# EAGLE library part TVC-CART-EDGE (library tvc-cart)
Videoton TV Computer cartridge connector for TVC 32k and TVC 64k (at TVC 64k+ there is no FAST)
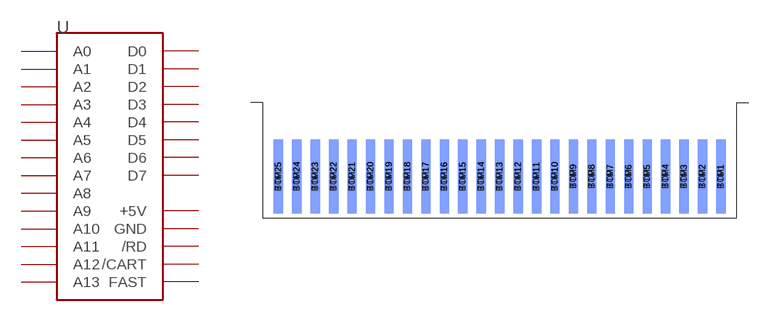
[diagram p0: symbol with the pads of TVC-CART-EDGE; footprint TVC-CART-EDGE]

Designator prefix -

## TVC-CART-EDGE  [TVC-CART-EDGE]
BTM1  GND  pwr
BTM2  GND  pwr
BTM3  GND  pwr
BTM4  GND  pwr
BTM5  GND  pwr
BTM6  GND  pwr
BTM7  GND  pwr
BTM8  GND  pwr
BTM10  +5V  pwr
BTM11  +5V  pwr
BTM12  +5V  pwr
BTM13  +5V  pwr
BTM14  +5V  pwr
BTM15  +5V  pwr
BTM16  +5V  pwr
BTM17  +5V  pwr
BTM23  /CART
BTM24  /RD
BTM25  FAST
TOP1  A3
TOP2  A1
TOP3  D7
TOP4  D0
TOP5  D1
TOP6  D2
TOP7  D3
TOP8  D4
TOP9  D5
TOP10  D6
TOP14  A5
TOP15  A8
TOP16  A12
TOP17  A7
TOP18  A6
TOP19  A9
TOP20  A11
TOP21  A4
TOP22  A10
TOP23  A13
TOP24  A2
TOP25  A0

## Footprint TVC-CART-EDGE (pad centres in mm)
Videoton TV Computer 50 pin cartridge edge connector
smd 1.27 x 10.16 bottom: BTM1 29.21,-6.35; BTM2 26.67,-6.35; BTM3 24.13,-6.35; BTM4 21.59,-6.35; BTM5 19.05,-6.35; BTM6 16.51,-6.35; BTM7 13.97,-6.35; BTM8 11.43,-6.35; BTM9 8.89,-6.35; BTM10 6.35,-6.35; BTM11 3.81,-6.35; BTM12 1.27,-6.35; BTM13 -1.27,-6.35; BTM14 -3.81,-6.35; BTM15 -6.35,-6.35; BTM16 -8.89,-6.35; BTM17 -11.43,-6.35; BTM18 -13.97,-6.35; BTM19 -16.51,-6.35; BTM20 -19.05,-6.35; BTM21 -21.59,-6.35; BTM22 -24.13,-6.35; BTM23 -26.67,-6.35; BTM24 -29.21,-6.35; BTM25 -31.75,-6.35
smd 1.27 x 10.16: TOP1 29.21,-6.35; TOP2 26.67,-6.35; TOP3 24.13,-6.35; TOP4 21.59,-6.35; TOP5 19.05,-6.35; TOP6 16.51,-6.35; TOP7 13.97,-6.35; TOP8 11.43,-6.35; TOP9 8.89,-6.35; TOP10 6.35,-6.35; TOP11 3.81,-6.35; TOP12 1.27,-6.35; TOP13 -1.27,-6.35; TOP14 -3.81,-6.35; TOP15 -6.35,-6.35; TOP16 -8.89,-6.35; TOP17 -11.43,-6.35; TOP18 -13.97,-6.35; TOP19 -16.51,-6.35; TOP20 -19.05,-6.35; TOP21 -21.59,-6.35; TOP22 -24.13,-6.35; TOP23 -26.67,-6.35; TOP24 -29.21,-6.35; TOP25 -31.75,-6.35